# Altium footprint library QFN.PcbLib: 46 footprints (part 3 of 3)
Each footprint in its own frame and in the unit in brackets; x right, y up, seen from the top. Pads: shape width x height; smd on the part's side, far side on the other; paste and mask are expansions set on the pad; w line width, h text height; cw(c..) or ccw(c..) is an arc to the next point about the centre after c.
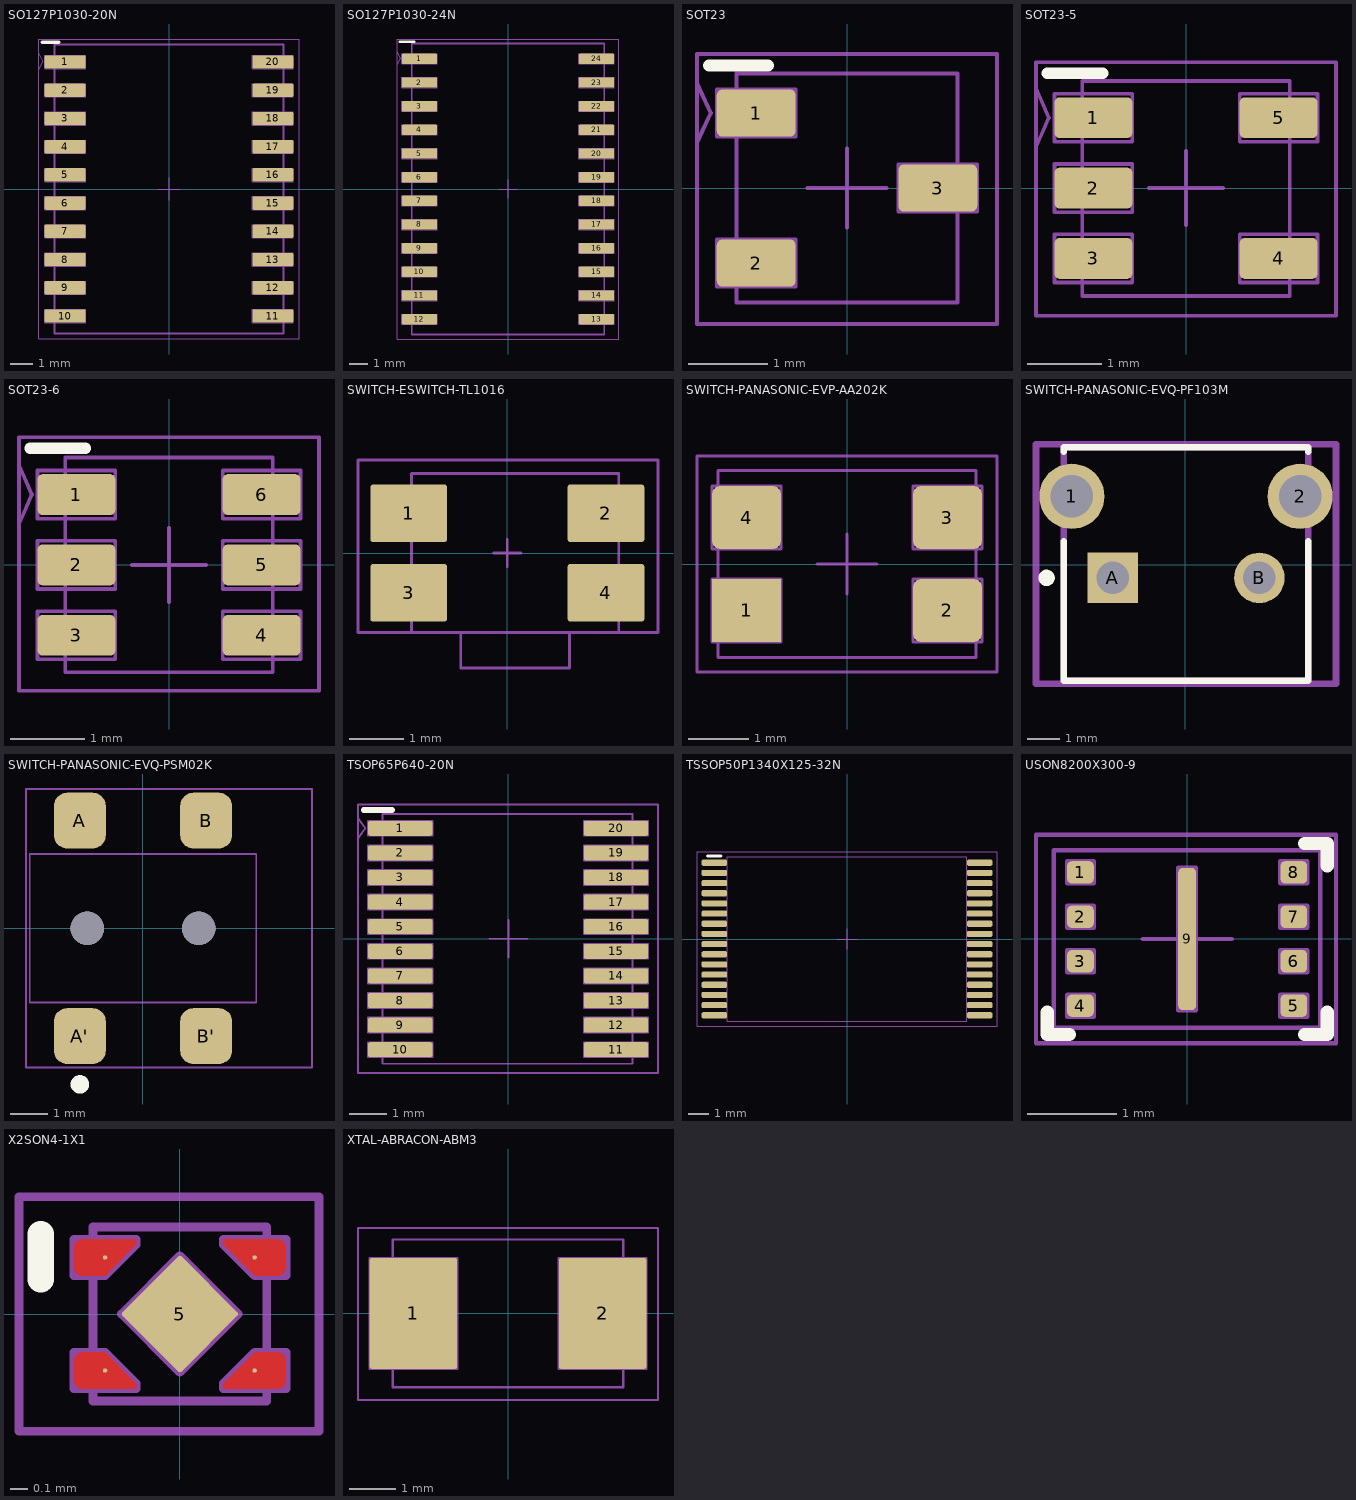
[diagram p2: the footprints below, top view; thin cyan lines are the x and y axes]

## SO127P1030-20N [mm] "SOIC, 20-LEADS, BODY 12.80X7.50MM, PITCH 1.27MM, IPC MEDIUM DENSITY"
height 2.65
pads (20):
  rrect25% 1.85x0.6 smd mask+0.075: 1(-4.675,5.715) 2(-4.675,4.445) 3(-4.675,3.175) 4(-4.675,1.905) 5(-4.675,0.635) 6(-4.675,-0.635) 7(-4.675,-1.905) 8(-4.675,-3.175) 9(-4.675,-4.445) 10(-4.675,-5.715) 11(4.675,-5.715) 12(4.675,-4.445) 13(4.675,-3.175) 14(4.675,-1.905) 15(4.675,-0.635) 16(4.675,0.635) 17(4.675,1.905) 18(4.675,3.175) 19(4.675,4.445) 20(4.675,5.715)
Top Overlay:
  lines w0.152: -5.7,6.6 -4.95,6.6
Top Courtyard:
  lines w0.05: -5.85,5.34 -5.675,5.715 -5.85,6.09 ; -0.5,0 0,0 ; 0,-0.5 0,0 ; 0,0.5 0,0 ; 0.5,0 0,0 ; -5.85,-6.75 5.85,-6.75 5.85,6.75 -5.85,6.75 -5.85,-6.75
Top Assembly:
  lines w0.05: -5.6,-6.015 -3.75,-6.015 -3.75,-5.415 -5.6,-5.415 -5.6,-6.015 ; -5.6,-4.745 -3.75,-4.745 -3.75,-4.145 -5.6,-4.145 -5.6,-4.745 ; -5.6,-3.475 -3.75,-3.475 -3.75,-2.875 -5.6,-2.875 -5.6,-3.475 ; -5.6,-2.205 -3.75,-2.205 -3.75,-1.605 -5.6,-1.605 -5.6,-2.205 ; -5.6,-0.935 -3.75,-0.935 -3.75,-0.335 -5.6,-0.335 -5.6,-0.935 ; -5.6,0.335 -3.75,0.335 -3.75,0.935 -5.6,0.935 -5.6,0.335 ; -5.6,1.605 -3.75,1.605 -3.75,2.205 -5.6,2.205 -5.6,1.605 ; -5.6,2.875 -3.75,2.875 -3.75,3.475 -5.6,3.475 -5.6,2.875 ; -5.6,4.145 -3.75,4.145 -3.75,4.745 -5.6,4.745 -5.6,4.145 ; -5.6,5.415 -3.75,5.415 -3.75,6.015 -5.6,6.015 -5.6,5.415 ; 3.75,-6.015 5.6,-6.015 5.6,-5.415 3.75,-5.415 3.75,-6.015 ; 3.75,-4.745 5.6,-4.745 5.6,-4.145 3.75,-4.145 3.75,-4.745 ; 3.75,-3.475 5.6,-3.475 5.6,-2.875 3.75,-2.875 3.75,-3.475 ; 3.75,-2.205 5.6,-2.205 5.6,-1.605 3.75,-1.605 3.75,-2.205 ; 3.75,-0.935 5.6,-0.935 5.6,-0.335 3.75,-0.335 3.75,-0.935 ; 3.75,0.335 5.6,0.335 5.6,0.935 3.75,0.935 3.75,0.335 ; 3.75,1.605 5.6,1.605 5.6,2.205 3.75,2.205 3.75,1.605 ; 3.75,2.875 5.6,2.875 5.6,3.475 3.75,3.475 3.75,2.875 ; 3.75,4.145 5.6,4.145 5.6,4.745 3.75,4.745 3.75,4.145 ; 3.75,5.415 5.6,5.415 5.6,6.015 3.75,6.015 3.75,5.415
  lines w0.1: -5.15,-6.5 5.15,-6.5 5.15,6.5 -5.15,6.5 -5.15,-6.5
  text "1" at -5.6,5.415 h0.3
3D body "SOIC127P1030X265-20N.step": height 2.65, standoff 0, extent -5.15,-6.5 5.15,6.5

## SO127P1030-24N [mm] "SOP, 24-LEADS, BODY 15.40X7.50MM, PITCH 1.27MM, IPC MEDIUM DENSITY"
height 2.65
pads (24):
  rrect25% 1.9x0.55 smd mask+0.075: 1(-4.75,6.985) 2(-4.75,5.715) 3(-4.75,4.445) 4(-4.75,3.175) 5(-4.75,1.905) 6(-4.75,0.635) 7(-4.75,-0.635) 8(-4.75,-1.905) 9(-4.75,-3.175) 10(-4.75,-4.445) 11(-4.75,-5.715) 12(-4.75,-6.985) 13(4.75,-6.985) 14(4.75,-5.715) 15(4.75,-4.445) 16(4.75,-3.175) 17(4.75,-1.905) 18(4.75,-0.635) 19(4.75,0.635) 20(4.75,1.905) 21(4.75,3.175) 22(4.75,4.445) 23(4.75,5.715) 24(4.75,6.985)
Top Overlay:
  lines w0.152: -5.8,7.9 -5.05,7.9
Top Courtyard:
  lines w0.05: -5.95,6.635 -5.775,6.985 -5.95,7.335 ; -0.5,0 0,0 ; 0,-0.5 0,0 ; 0,0.5 0,0 ; 0.5,0 0,0 ; -5.95,-8.05 -5.95,8.05 5.95,8.05 5.95,-8.05 -5.95,-8.05
Top Assembly:
  lines w0.05: -5.7,-7.26 -5.7,-6.71 -3.8,-6.71 -3.8,-7.26 -5.7,-7.26 ; -5.7,-5.99 -5.7,-5.44 -3.8,-5.44 -3.8,-5.99 -5.7,-5.99 ; -5.7,-4.72 -5.7,-4.17 -3.8,-4.17 -3.8,-4.72 -5.7,-4.72 ; -5.7,-3.45 -5.7,-2.9 -3.8,-2.9 -3.8,-3.45 -5.7,-3.45 ; -5.7,-2.18 -5.7,-1.63 -3.8,-1.63 -3.8,-2.18 -5.7,-2.18 ; -5.7,-0.91 -5.7,-0.36 -3.8,-0.36 -3.8,-0.91 -5.7,-0.91 ; -5.7,0.36 -5.7,0.91 -3.8,0.91 -3.8,0.36 -5.7,0.36 ; -5.7,1.63 -5.7,2.18 -3.8,2.18 -3.8,1.63 -5.7,1.63 ; -5.7,2.9 -5.7,3.45 -3.8,3.45 -3.8,2.9 -5.7,2.9 ; -5.7,4.17 -5.7,4.72 -3.8,4.72 -3.8,4.17 -5.7,4.17 ; -5.7,5.44 -5.7,5.99 -3.8,5.99 -3.8,5.44 -5.7,5.44 ; -5.7,6.71 -5.7,7.26 -3.8,7.26 -3.8,6.71 -5.7,6.71 ; 3.8,-7.26 3.8,-6.71 5.7,-6.71 5.7,-7.26 3.8,-7.26 ; 3.8,-5.99 3.8,-5.44 5.7,-5.44 5.7,-5.99 3.8,-5.99 ; 3.8,-4.72 3.8,-4.17 5.7,-4.17 5.7,-4.72 3.8,-4.72 ; 3.8,-3.45 3.8,-2.9 5.7,-2.9 5.7,-3.45 3.8,-3.45 ; 3.8,-2.18 3.8,-1.63 5.7,-1.63 5.7,-2.18 3.8,-2.18 ; 3.8,-0.91 3.8,-0.36 5.7,-0.36 5.7,-0.91 3.8,-0.91 ; 3.8,0.36 3.8,0.91 5.7,0.91 5.7,0.36 3.8,0.36 ; 3.8,1.63 3.8,2.18 5.7,2.18 5.7,1.63 3.8,1.63 ; 3.8,2.9 3.8,3.45 5.7,3.45 5.7,2.9 3.8,2.9 ; 3.8,4.17 3.8,4.72 5.7,4.72 5.7,4.17 3.8,4.17 ; 3.8,5.44 3.8,5.99 5.7,5.99 5.7,5.44 3.8,5.44 ; 3.8,6.71 3.8,7.26 5.7,7.26 5.7,6.71 3.8,6.71
  lines w0.1: -5.162,-7.8 -5.162,7.8 5.162,7.8 5.162,-7.8 -5.162,-7.8
  text "1" at -5.7,6.71 h0.3
3D body "SOP127P1030X265-24N.step": height 2.65, standoff 0, extent -5.162,-7.8 5.162,7.8

## SOT23 [mm] "SOT23 PACKAGE, 3 PIN"
height 1.3
pads (3):
  rrect25% 1x0.6 smd paste+0 mask+0.075: 1(-1.15,0.95) 2(-1.15,-0.95) 3(1.15,0)
Top Overlay:
  lines w0.152: -1.75,1.55 -1,1.55
Top Courtyard:
  lines w0.05: -1.9,0.575 -1.725,0.95 -1.9,1.325 ; -0.5,0 0,0 ; 0,-0.5 0,0 ; 0,0.5 0,0 ; 0.5,0 0,0 ; -1.9,-1.725 -1.9,1.7 1.9,1.7 1.9,-1.725 -1.9,-1.725
Top Assembly:
  lines w0.05: -1.65,-1.25 -1.65,-0.65 -0.65,-0.65 -0.65,-1.25 -1.65,-1.25 ; -1.65,0.65 -1.65,1.25 -0.65,1.25 -0.65,0.65 -1.65,0.65 ; -1.4,-1.45 -1.4,1.45 1.4,1.45 1.4,-1.45 -1.4,-1.45 ; 0.65,-0.3 0.65,0.3 1.65,0.3 1.65,-0.3 0.65,-0.3
3D body "SOT23-3.step": height 1.3, standoff 0, extent -1.4,-1.45 1.4,1.45

## SOT23-5 [mm] "SOT23 PACKAGE, 5 PIN (SOT25)"
height 1.45
pads (5):
  rrect25% 1.05x0.55 smd paste+0 mask+0.075: 1(-1.25,0.95) 2(-1.25,0) 3(-1.25,-0.95) 4(1.25,-0.95) 5(1.25,0.95)
Top Overlay:
  lines w0.152: -1.875,1.55 -1.125,1.55
Top Courtyard:
  lines w0.05: -2.025,0.55 -1.85,0.95 -2.025,1.35 ; -0.5,0 0,0 ; 0,-0.5 0,0 ; 0,0.5 0,0 ; 0.5,0 0,0 ; -2.025,-1.725 2.025,-1.725 2.025,1.7 -2.025,1.7 -2.025,-1.725
Top Assembly:
  lines w0.05: -1.775,-1.275 -0.725,-1.275 -0.725,-0.625 -1.775,-0.625 -1.775,-1.275 ; -1.775,-0.325 -0.725,-0.325 -0.725,0.325 -1.775,0.325 -1.775,-0.325 ; -1.775,0.625 -0.725,0.625 -0.725,1.275 -1.775,1.275 -1.775,0.625 ; -1.401,-1.456 1.399,-1.456 1.399,1.444 -1.401,1.444 -1.401,-1.456 ; 0.725,-1.275 1.775,-1.275 1.775,-0.625 0.725,-0.625 0.725,-1.275 ; 0.725,0.625 1.775,0.625 1.775,1.275 0.725,1.275 0.725,0.625
  text "1" at -1.775,0.625 h0.3
3D body "SOT23-5.step": height 1.45, standoff 0, extent -1.401,-1.456 1.399,1.444

## SOT23-6 [mm] "SOT23 PACKAGE, 6 PIN (SOT26)"
height 1.45
pads (6):
  rrect25% 1.05x0.55 smd paste+0 mask+0.05: 1(-1.25,0.95) 2(-1.25,0) 3(-1.25,-0.95) 4(1.25,-0.95) 5(1.25,0) 6(1.25,0.95)
Top Overlay:
  lines w0.15: -1.875,1.575 -1.125,1.575
Top Courtyard:
  lines w0.05: -2.025,0.55 -1.85,0.95 -2.025,1.35 ; -0.5,0 0,0 ; 0,-0.5 0,0 ; 0,0.5 0,0 ; 0.5,0 0,0 ; -2.025,-1.7 -2.025,1.725 2.025,1.725 2.025,-1.7 -2.025,-1.7
Top Assembly:
  lines w0.05: -1.775,-1.275 -1.775,-0.625 -0.725,-0.625 -0.725,-1.275 -1.775,-1.275 ; -1.775,-0.325 -1.775,0.325 -0.725,0.325 -0.725,-0.325 -1.775,-0.325 ; -1.775,0.625 -1.775,1.275 -0.725,1.275 -0.725,0.625 -1.775,0.625 ; -1.4,-1.45 -1.4,1.45 1.4,1.45 1.4,-1.45 -1.4,-1.45 ; 0.725,-1.275 0.725,-0.625 1.775,-0.625 1.775,-1.275 0.725,-1.275 ; 0.725,-0.325 0.725,0.325 1.775,0.325 1.775,-0.325 0.725,-0.325 ; 0.725,0.625 0.725,1.275 1.775,1.275 1.775,0.625 0.725,0.625
  text "1" at -1.775,0.625 h0.3
3D body "SOT23-6.step": height 1.45, standoff 0, extent -1.4,-1.45 1.4,1.45

## SWITCH-ESWITCH-TL1016 [mm]
pads (4):
  rrect9% 1.4x1.05 smd paste+0 mask+0.05: 1(-1.8,0.725) 2(1.8,0.725) 3(-1.8,-0.725) 4(1.8,-0.725)
Top Courtyard:
  lines w0.05: -0.25,0 0,0 ; 0,-0.25 0,0 ; 0,0.25 0,0 ; 0.25,0 0,0 ; -2.725,-1.45 1.134,-1.45 2.75,-1.45 2.75,-1.2 2.75,1.7 -2.725,1.7 -2.725,-1.45
Top Assembly:
  lines w0.05: -1.75,-1.45 -0.85,-1.45 -0.85,-2.1 1.134,-2.1 1.134,-1.45 2.035,-1.45 2.035,1.45 -1.75,1.45 -1.75,-1.45
3D body "TL1016AAFxxxQG.stp": height 1.36, standoff 0.01, extent -2.35,-2.1 2.35,1.45

## SWITCH-PANASONIC-EVP-AA202K [mm] "SWITCH-PANASONIC-EVP-AA202K"
height 1.713
pads (4):
  rect 1.15x1.05 smd mask+0.075: 1(-1.675,-0.775)
  rrect25% 1.15x1.05 smd mask+0.075: 2(1.675,-0.775) 3(1.675,0.775) 4(-1.675,0.775)
Top Courtyard:
  lines w0.05: 0,-0.5 0,0 ; 0,0 -0.5,0 0,0 ; 0,0 0,0.5 0,0 ; 0,0 0.5,0 0,0 ; -2.5,-1.8 2.5,-1.8 2.5,1.8 -2.5,1.8 -2.5,-1.8
Top Assembly:
  lines w0.05: -2.25,-1.3 -2.25,-0.25 -1.675,-0.25 -1.1,-0.25 -1.1,-1.3 -2.25,-1.3 ; -2.25,0.25 -2.25,1.3 -1.675,1.3 -1.1,1.3 -1.1,0.25 -2.25,0.25 ; -2.15,-1.555 -2.15,1.555 2.15,1.555 2.15,-1.555 -2.15,-1.555 ; 1.1,-1.3 1.1,-0.25 1.675,-0.25 2.25,-0.25 2.25,-1.3 1.1,-1.3 ; 1.1,0.25 1.1,1.3 1.675,1.3 2.25,1.3 2.25,0.25 1.1,0.25
  text "1" at -2.25,-1.3 h1
3D body "EVPAA-002K_202K_402W_602W_802Q.STEP": height 1.71, standoff 0.01, extent -2.15,-1.555 2.15,1.555

## SWITCH-PANASONIC-EVQ-PF103M [mm]
pads (4):
  round 2 hole 1.3 paste-2539.97 mask+0: 1(-3.475,2.1) 2(3.525,2.1)
  rect 1.55x1.55 hole 1 paste-2539.97 mask+0: A(-2.225,-0.4)
  round 1.55 hole 1 paste-2539.97 mask+0: B(2.275,-0.4)
Top Overlay:
  circle w0.25: c-4.25,-0.4 r0.125
  lines w0.2: -3.725,0.725 -3.725,-3.55 3.775,-3.55 3.775,0.725 ; -3.725,3.475 -3.725,3.6 3.775,3.6 3.775,3.475
Top 3D Body:
  lines w0.2: -3.725,-3.55 -3.725,3.6 3.775,3.6 3.775,-3.55 -3.725,-3.55
Bottom Courtyard:
  lines w0.2: -4.575,-3.65 -4.575,3.7 4.625,3.7 4.625,-3.65 -4.575,-3.65
Top Assembly:
  lines w0.2: -4.575,-3.65 -4.575,3.7 4.625,3.7 4.625,-3.65 -4.575,-3.65
3D body "Switch_Panasonic_Electronic_Components_EVQ-PF103M_eec.STEP": height 0.25, standoff 0, extent -4.575,-3.65 4.625,3.7

## SWITCH-PANASONIC-EVQ-PSM02K [mm]
pads (6):
  rrect50% 1.4x1.5 smd paste+0 mask+0.05: A(-1.7,2.9) A'(-1.7,-2.9) B(1.7,2.9) B'(1.7,-2.9)
  round 0.9 hole 0.9 unplated paste-2539.97 mask+0: ""(-1.5,0) ""(1.5,0)
Top Overlay:
  circle w0.25: c-1.7,-4.2 r0.125
Top 3D Body:
  lines w0.05: -3.05,-2 -3.05,2 3.05,2 3.05,-2 -3.05,-2
Bottom Courtyard:
  lines w0.05: -3.15,-3.75 -3.15,3.75 4.55,3.75 4.55,-3.75 -3.15,-3.75
Top Assembly:
  lines w0.05: -3.15,-3.75 -3.15,3.75 4.55,3.75 4.55,-3.75 -3.15,-3.75
3D body "Switch_Panasonic_Electronic_Components_EVQ-PSM02K_eec.STEP": height 0.25, standoff 0, extent -3.15,-3.75 4.55,3.75

## TSOP65P640-20N [mm] "TSOP65P640 20N"
height 1.79
pads (20):
  rrect25% 1.7x0.395 smd mask+0.075: 1(-2.859,2.92) 2(-2.859,2.27) 3(-2.859,1.62) 4(-2.859,0.97) 5(-2.859,0.32) 6(-2.859,-0.33) 7(-2.859,-0.98) 8(-2.859,-1.63) 9(-2.859,-2.28) 10(-2.859,-2.93) 11(2.841,-2.93) 12(2.841,-2.28) 13(2.841,-1.63) 14(2.841,-0.98) 15(2.841,-0.33) 16(2.841,0.32) 17(2.841,0.97) 18(2.841,1.62) 19(2.841,2.27) 20(2.841,2.92)
Top Overlay:
  lines w0.152: -3.825,3.4 -3.075,3.4
Top Courtyard:
  lines w0.05: -3.975,2.647 -3.784,2.92 -3.975,3.192 ; -0.5,0 0,0 ; 0,-0.5 0,0 ; 0,0.5 0,0 ; 0.5,0 0,0 ; -3.975,-3.55 3.95,-3.55 3.95,3.55 -3.975,3.55 -3.975,-3.55
Top Assembly:
  lines w0.05: -3.709,-3.128 -2.009,-3.128 -2.009,-2.733 -3.709,-2.733 -3.709,-3.128 ; -3.709,-2.478 -2.009,-2.478 -2.009,-2.083 -3.709,-2.083 -3.709,-2.478 ; -3.709,-1.828 -2.009,-1.828 -2.009,-1.433 -3.709,-1.433 -3.709,-1.828 ; -3.709,-1.178 -2.009,-1.178 -2.009,-0.783 -3.709,-0.783 -3.709,-1.178 ; -3.709,-0.528 -2.009,-0.528 -2.009,-0.133 -3.709,-0.133 -3.709,-0.528 ; -3.709,0.122 -2.009,0.122 -2.009,0.517 -3.709,0.517 -3.709,0.122 ; -3.709,0.772 -2.009,0.772 -2.009,1.167 -3.709,1.167 -3.709,0.772 ; -3.709,1.422 -2.009,1.422 -2.009,1.817 -3.709,1.817 -3.709,1.422 ; -3.709,2.072 -2.009,2.072 -2.009,2.467 -3.709,2.467 -3.709,2.072 ; -3.709,2.722 -2.009,2.722 -2.009,3.117 -3.709,3.117 -3.709,2.722 ; -3.325,-3.3 3.275,-3.3 3.275,3.3 -3.325,3.3 -3.325,-3.3 ; 1.991,-3.128 3.691,-3.128 3.691,-2.733 1.991,-2.733 1.991,-3.128 ; 1.991,-2.478 3.691,-2.478 3.691,-2.083 1.991,-2.083 1.991,-2.478 ; 1.991,-1.828 3.691,-1.828 3.691,-1.433 1.991,-1.433 1.991,-1.828 ; 1.991,-1.178 3.691,-1.178 3.691,-0.783 1.991,-0.783 1.991,-1.178 ; 1.991,-0.528 3.691,-0.528 3.691,-0.133 1.991,-0.133 1.991,-0.528 ; 1.991,0.122 3.691,0.122 3.691,0.517 1.991,0.517 1.991,0.122 ; 1.991,0.772 3.691,0.772 3.691,1.167 1.991,1.167 1.991,0.772 ; 1.991,1.422 3.691,1.422 3.691,1.817 1.991,1.817 1.991,1.422 ; 1.991,2.072 3.691,2.072 3.691,2.467 1.991,2.467 1.991,2.072 ; 1.991,2.722 3.691,2.722 3.691,3.117 1.991,3.117 1.991,2.722
  text "1" at -3.709,2.722 h0.3
3D body "SW3dPS-TSOP_20.step": height 1.79, standoff -0.05, extent -3.325,-3.3 3.275,3.3

## TSSOP50P1340X125-32N [mm] "TSSOP, 32-Leads, Body 8.10x11.80mm, Pitch 0.50mm, IPC Medium Density"
height 1.25
pads (32):
  rrect50% 1.25x0.3 smd mask+0.05: 1(-6.525,3.75) 2(-6.525,3.25) 3(-6.525,2.75) 4(-6.525,2.25) 5(-6.525,1.75) 6(-6.525,1.25) 7(-6.525,0.75) 8(-6.525,0.25) 9(-6.525,-0.25) 10(-6.525,-0.75) 11(-6.525,-1.25) 12(-6.525,-1.75) 13(-6.525,-2.25) 14(-6.525,-2.75) 15(-6.525,-3.25) 16(-6.525,-3.75) 17(6.525,-3.75) 18(6.525,-3.25) 19(6.525,-2.75) 20(6.525,-2.25) 21(6.525,-1.75) 22(6.525,-1.25) 23(6.525,-0.75) 24(6.525,-0.25) 25(6.525,0.25) 26(6.525,0.75) 27(6.525,1.25) 28(6.525,1.75) 29(6.525,2.25) 30(6.525,2.75) 31(6.525,3.25) 32(6.525,3.75)
Top Overlay:
  lines w0.15: -6.85,4.075 -6.2,4.075
Top Courtyard:
  lines w0.05: -0.5,0 0.5,0 ; 0,-0.5 0,0.5 ; -7.375,-4.3 7.375,-4.3 7.375,4.3 -7.375,4.3 -7.375,-4.3
Top Assembly:
  lines w0.05: -5.9,-4.05 5.9,-4.05 5.9,4.05 -5.9,4.05 -5.9,-4.05
3D body "TSSOP50P1340X125-32N.step": height 1.25, standoff 0, extent -6.7,-4.05 6.7,4.05

## USON8200X300-9 [mm] "USON 2X3mm"
height 1.6
pads (9):
  rrect40% 0.3x0.25 smd paste+0 mask+0.05: 1(-1.2,0.75) 2(-1.2,0.25) 3(-1.2,-0.25) 4(-1.2,-0.75) 5(1.2,-0.75) 6(1.2,-0.25) 7(1.2,0.25) 8(1.2,0.75)
  rrect50% 0.2x1.6 smd paste+0 mask+0.05: 9(0,0)
Top Overlay:
  lines w0.15: -1.575,-0.825 -1.575,-1.075 -1.325,-1.075 ; 1.325,-1.075 1.575,-1.075 1.575,-0.825 ; 1.325,1.075 1.575,1.075 1.575,0.825
Top Courtyard:
  lines w0.05: -0.5,0 0,0 ; 0,-0.5 0,0 ; 0,0.5 0,0 ; 0.5,0 0,0 ; -1.7,-1.175 -1.7,1.175 1.675,1.175 1.675,-1.175 0,-1.175 -1.7,-1.175
Top Assembly:
  lines w0.05: -1.5,-1 -1.5,1 0,1 1.5,1 1.5,-1 -1.5,-1 ; -1.35,-0.875 -1.35,-0.625 -1.2,-0.625 -1.05,-0.625 -1.05,-0.875 -1.35,-0.875 ; -1.35,-0.375 -1.35,-0.125 -1.2,-0.125 -1.05,-0.125 -1.05,-0.375 -1.35,-0.375 ; -1.35,0.125 -1.35,0.375 -1.2,0.375 -1.05,0.375 -1.05,0.125 -1.35,0.125 ; -1.35,0.625 -1.35,0.875 -1.2,0.875 -1.05,0.875 -1.05,0.625 -1.35,0.625 ; -0.1,-0.8 -0.1,0.8 0,0.8 0.1,0.8 0.1,-0.8 -0.1,-0.8 ; 1.05,-0.875 1.05,-0.625 1.2,-0.625 1.35,-0.625 1.35,-0.875 1.05,-0.875 ; 1.05,-0.375 1.05,-0.125 1.2,-0.125 1.35,-0.125 1.35,-0.375 1.05,-0.375 ; 1.05,0.125 1.05,0.375 1.2,0.375 1.35,0.375 1.35,0.125 1.05,0.125 ; 1.05,0.625 1.05,0.875 1.2,0.875 1.35,0.875 1.35,0.625 1.05,0.625
  text "1" at -1.35,0.625 h0.2
3D body "IC_Macronix_MX25R1635FZUIH0_eec.STEP": height 0.6, standoff 0, extent -1.5,-1 1.5,1

## X2SON4-1X1 [mm] "FOOTPRINT, TI, DQN0004A X2SON4"
height 1.1
pads (5):
  round 0.025 smd mask+0.05: 1(-0.43,0.325) 2(-0.43,-0.325) 3(0.43,-0.325) 4(0.43,0.325)
  rrect4% 0.48x0.48 smd rot 45 mask+0.05: 5(0,0)
Top Layer:
  region: 0.43,-0.22 0.25,-0.4 0.25,-0.43 0.559,-0.43 0.569,-0.43 0.588,-0.422 0.602,-0.408 0.61,-0.389 0.61,-0.379 0.61,-0.271 0.61,-0.261 0.602,-0.242 0.588,-0.228 0.569,-0.22 0.559,-0.22 0.52,-0.22
  region: -0.43,-0.22 -0.25,-0.4 -0.25,-0.43 -0.559,-0.43 -0.569,-0.43 -0.588,-0.422 -0.602,-0.408 -0.61,-0.389 -0.61,-0.379 -0.61,-0.271 -0.61,-0.261 -0.602,-0.242 -0.588,-0.228 -0.569,-0.22 -0.559,-0.22 -0.52,-0.22
  region: -0.43,0.22 -0.25,0.4 -0.25,0.43 -0.559,0.43 -0.569,0.43 -0.588,0.422 -0.602,0.408 -0.61,0.389 -0.61,0.379 -0.61,0.271 -0.61,0.261 -0.602,0.242 -0.588,0.228 -0.569,0.22 -0.559,0.22 -0.52,0.22
  region: 0.43,0.22 0.25,0.4 0.25,0.43 0.559,0.43 0.569,0.43 0.588,0.422 0.602,0.408 0.61,0.389 0.61,0.379 0.61,0.271 0.61,0.261 0.602,0.242 0.588,0.228 0.569,0.22 0.559,0.22 0.52,0.22
Top Overlay:
  lines w0.15: -0.8,0.2 -0.8,0.46
Top Courtyard:
  lines w0.05: -0.925,-0.675 0.8,-0.675 0.8,0.675 -0.925,0.675 -0.925,-0.675
Top Assembly:
  region: -0.25,0.43 -0.43,0.43 -0.43,0.22 -0.25,0.4
  lines w0.05: -0.559,0.43 -0.5,0.43 -0.5,0.5 0.5,0.5 0.5,-0.5 -0.5,-0.5 -0.5,0.22 -0.43,0.22 ; -0.43,0.22 -0.61,0.22 -0.61,0.43 -0.25,0.43 -0.25,0.4 -0.43,0.22 ; -0.61,-0.43 -0.61,-0.22 -0.43,-0.22 -0.25,-0.4 -0.25,-0.43 -0.61,-0.43 ; -0.335,0 0,-0.335 0.335,0 0,0.335 -0.335,0 ; 0.25,-0.43 0.61,-0.43 0.61,-0.22 0.43,-0.22 0.25,-0.4 0.25,-0.43 ; 0.25,0.4 0.43,0.22 0.61,0.22 0.61,0.43 0.25,0.43 0.25,0.4
  text "1" at -0.61,0.225 h0.3
3D body: height 0.4, standoff 0, extent -0.5,-0.5 0.5,0.5

## XTAL-ABRACON-ABM3 [mm]
pads (2):
  rrect5% 1.9x2.4 smd mask+0.05: 1(-2.05,0) 2(2.05,0)
Top Courtyard:
  lines w0.05: -3.25,-1.875 3.25,-1.875 3.25,1.85 -3.25,1.85 -3.25,-1.875
Top Assembly:
  lines w0.05: 0,1.6 0,1.6 ; 0,1.6 2.5,1.6 2.5,-1.6 -2.5,-1.6 -2.5,1.6 0,1.6 ; -3,-1.2 -1.1,-1.2 -1.1,1.2 -2.05,1.2 -3,1.2 -3,-1.2 ; 1.1,-1.2 3,-1.2 3,1.2 2.05,1.2 1.1,1.2 1.1,-1.2
3D body "ABM3-18.432MHZ-B2-T.step": height 1.31, standoff 0.01, extent -2.5,-1.6 2.5,1.6